# Altium integrated library ftg_lib.IntLib: 73 symbols (part 2 of 2)
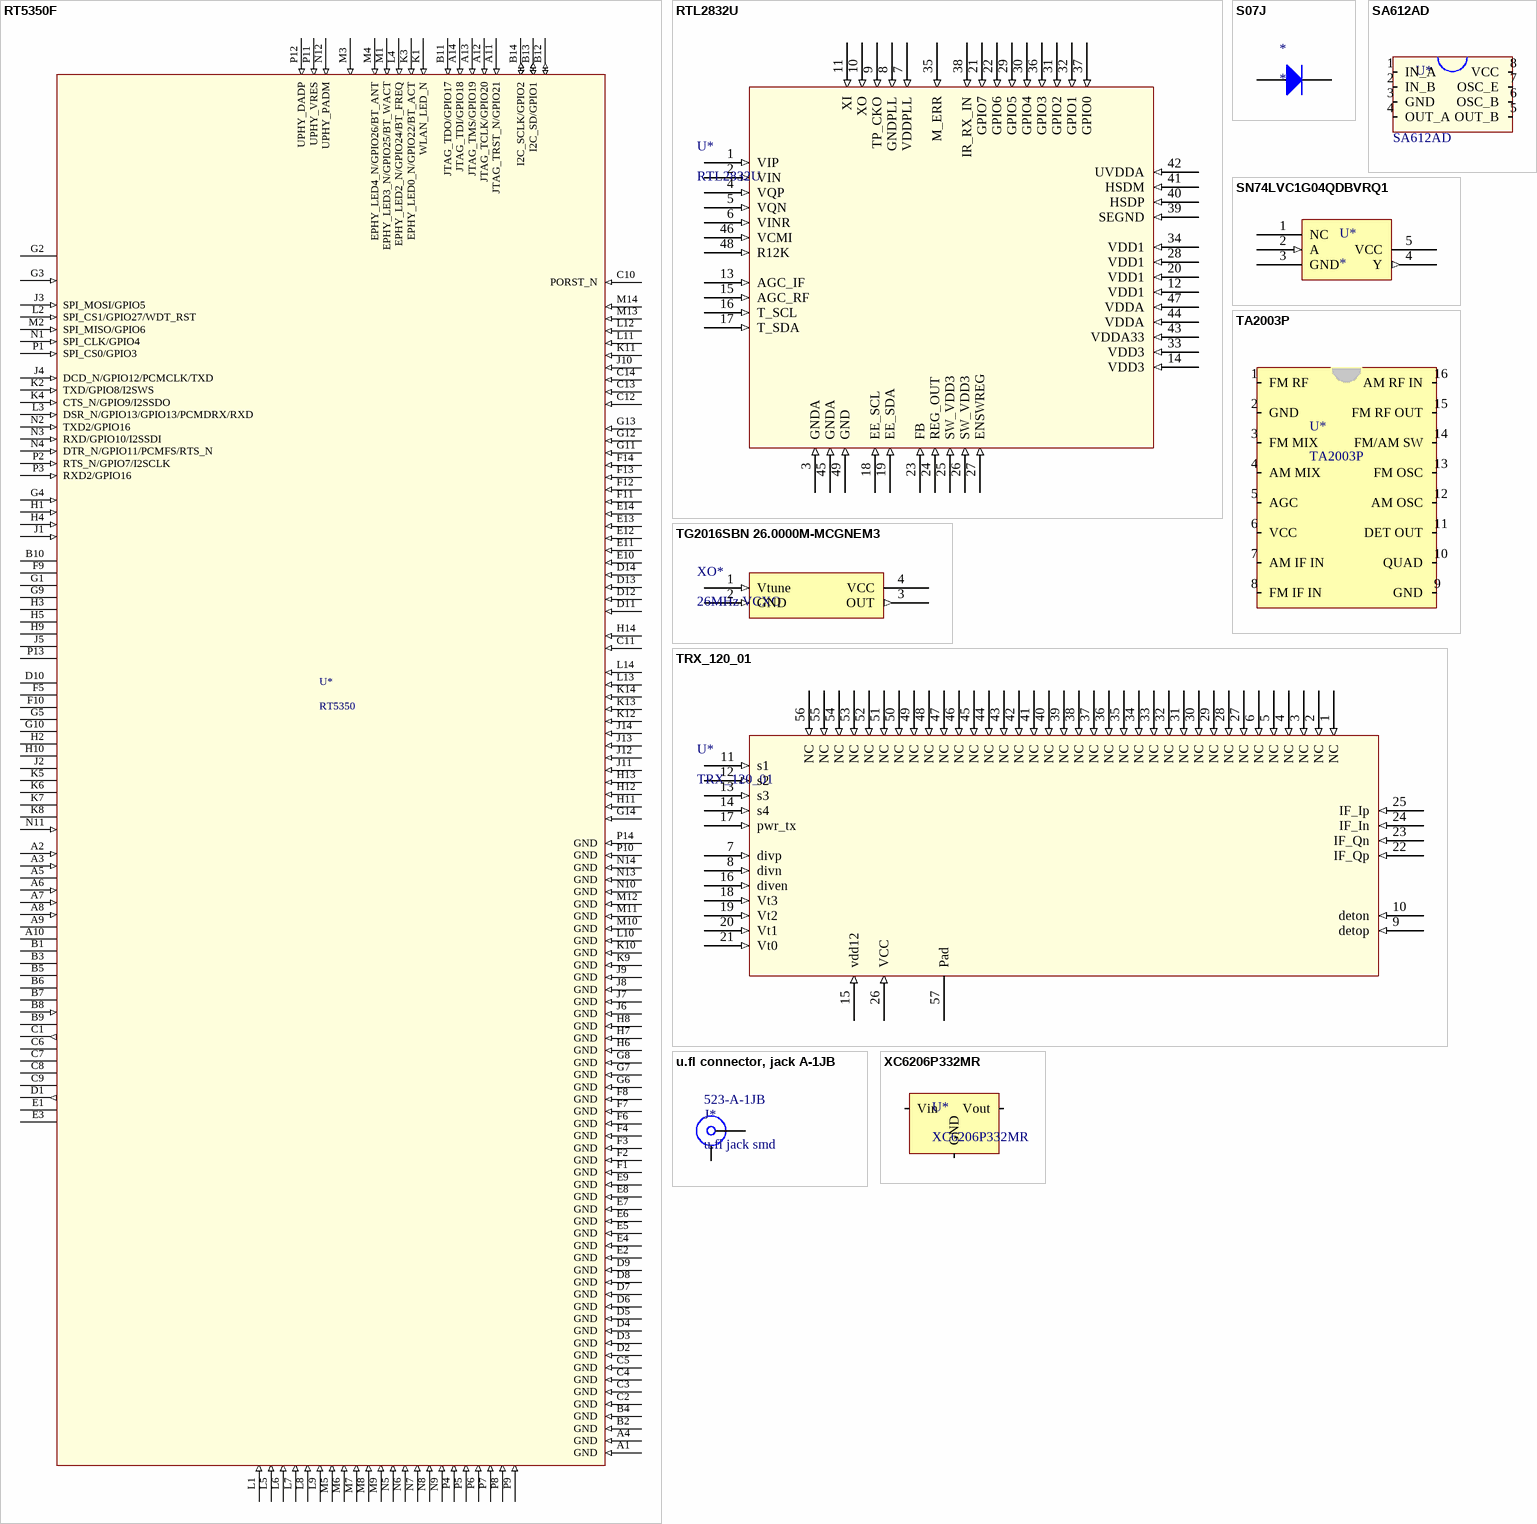
[diagram p3: symbols RT5350F to XC6206P332MR]

## SA612AD
designator U*
Manufacturer 1: NXP Semiconductors; Manufacturer Part Number 1: SA612AD/01,118; Input Frequency: 500MHz; Power Gain: 17dB; Supplier 1: Mouser; Stock 1: 1993; Pricing 1: 1=2.34, 10=1.92, 50=1.92, 100=1.54, 1000=1.11, 10000=0.998 (USD); Operating Temperature (Min): -40C; Operating Temperature (Max): 85C; Package Type: SO; Packaging: Tape and Reel; Operating Temperature Classification: Industrial; ComponentLink1URL: https://datasheet.ciiva.com/27052/1460068-27052253.pdf; ComponentLink1Description: https://datasheet.ciiva.com/27052/1460068-27052253.pdf; ComponentLink2URL: https://datasheet.ciiva.com/15100/getdatasheetpartid-117259-15100947.pdf; ComponentLink2Description: https://datasheet.ciiva.com/15100/getdatasheetpartid-117259-15100947.pdf; ComponentLink3URL: https://datasheet.ciiva.com/3271/sa612a-3271368.pdf; ComponentLink3Description: https://datasheet.ciiva.com/3271/sa612a-3271368.pdf; Supplier Part Number 1: SA612AD
footprint SO8_SOIC8
pins: 1 IN_A, 2 IN_B, 3 GND, 4 OUT_A, 5 OUT_B, 6 OSC_B, 7 OSC_E, 8 VCC

## SN74LVC1G04QDBVRQ1
designator U*
Single gate inverter; Publisher: ftg; Case: SOT23-5
footprint SOT23-5_TI (SOT23, 5-Leads, Body 2,90x2,80mm, Pitch 0,95mm, IPC Low Density)
pins: 1 NC, 2 A (in), 3 GND, 4 Y (out), 5 VCC (power)

## TA2003P
designator U*
AM/FM receiver IC; Manufacturer 1: Toshiba; Supplier 1: Arrow; Manufacturer Part Number 1: TA2003P; Stock 1: 0; Category: Semiconductors › Other analog ICs › Other analog ICs; Supplier Part Number 1: TA2003P; ComponentLink1Description: UTC TA2003 datasheet; ComponentLink1URL: http://www.unisonic.com.tw/datasheet/TA2003.pdf
footprint DIP16_tosh
pins: 1 FM RF, 2 GND, 3 FM MIX, 4 AM MIX, 5 AGC, 6 VCC (power), 7 AM IF IN, 8 FM IF IN, 9 GND, 10 QUAD, 11 DET OUT, 12 AM OSC, 13 FM OSC, 14 FM/AM SW, 15 FM RF OUT, 16 AM RF IN

## TG2016SBN 26.0000M-MCGNEM3
designator XO*, comment 26MHz VCXO
26MHz VCXO 1.5ppm 3.3V; Manufacturer 1: Epson; Manufacturer Part Number 1: TG2016SBN 26.0000M-MCGNEM3; Max Supply Current: 10mA; Load Capacitance: 10pF; Supplier 1: Mouser; Stock 1: 144; Case/Package: SMD/SMT; Min Operating Temperature: -40°C; Max Operating Temperature: 85°C; Frequency: 26MHz; Packaging: Tape and Reel; Package Quantity: 1; Frequency Stability: 1.5ppm; Termination: SMD/SMT; Length: 2mm; Height: 0.73; Width: 1.6mm; Lead Free: Lead Free; ComponentLink1URL: http://www.mouser.com/ds/2/137/epson_10202016_TG2016SBN-1021127.pdf; ComponentLink1Description: http://www.mouser.com/ds/2/137/epson_10202016_TG2016SBN-1021127.pdf; Supplier Part Number 1: 732-20S26.0MCGNEM3
footprint TG2016SBN (TG2016SBN TCXO/VCXO case)
pins: 1 Vtune (in), 2 GND (in), 3 OUT (out), 4 VCC (power)

## TRX_120_01
designator U*
122GHz Radar Front End; Manufacturer: Silicon Radar GmbH; Publisher: ftg; ComponentLink1URL: http://www.siliconradar.com/datasheets/160721_Datenblatt_TRX_120G.pdf; ComponentLink1Description: TRX_120_01 Datasheet; Package / Case: QFN-56; Published: 26.4.2017
footprint QFN50P800X800X84_HS-57N (QFN, 56-Leads, Body 8,00x8,00mm, Pitch 0,50mm, Thermal Pad 6,20x6,20mm, IPC Medium Density)
pins: 1 NC (in), 2 NC (in), 3 NC (in), 4 NC (in), 5 NC (in), 6 NC (in), 7 divp (in) "Divider out+", 8 divn (in) "Divider out-", 9 detop (in) "MUX out+", 10 deton (in) "MUX out-", 11 s1 (in) "MUX Ctrl", 12 s2 (in) "MUX Ctrl", 13 s3 (in) "MUX Ctrl", 14 s4 (in) "MUX Ctrl", 15 vdd12 (in) "Pwr det supply 1.2V 2mA", 16 diven (in) "Divider Enable", 17 pwr_tx (in) "TX Enable", 18 Vt3 (in) "VCO tune3", 19 Vt2 (in) "VCO tune2", 20 Vt1 (in) "VCO tune1", 21 Vt0 (in) "VCO tune0", 22 IF_Qp (in) "IF_Q+", 23 IF_Qn (in) "IF_Q-", 24 IF_In (in) "IF_I-", 25 IF_Ip (in) "IF_I+", 26 VCC (in) "3.3V Supply", 27 NC (in), 28 NC (in), 29 NC (in), 30 NC (in), 31 NC (in), 32 NC (in), 33 NC (in), 34 NC (in), 35 NC (in), 36 NC (in), 37 NC (in), 38 NC (in), 39 NC (in), 40 NC (in), 41 NC (in), 42 NC (in), 43 NC (in), 44 NC (in), 45 NC (in), 46 NC (in), 47 NC (in), 48 NC (in), 49 NC (in), 50 NC (in), 51 NC (in), 52 NC (in), 53 NC (in), 54 NC (in), 55 NC (in), 56 NC (in), 57 Pad

## u.fl connector, jack A-1JB
designator J*, comment u.fl jack smd  Supplier Part Number 1: 523-A-1JB
Manufacturer 1: Amphenol / Amphenol RF; Manufacturer Part Number 1: A-1JB; Connector Type: AMC Coaxial; Body Style: Straight Jack; Coaxial Termination: Solder; Impedance: 50ohm; Frequency Max: 6GHz; Supplier 1: Mouser; Stock 1: 19506; Pricing 1: 1=0.65, 10=0.596, 50=0.535, 100=0.51, 1000=0.365, 10000=0.351 (USD); Contact Material: Brass; Contact Plating: Gold; ComponentLink1URL: https://datasheet.ciiva.com/22652/689597-22652949.pdf; ComponentLink1Description: https://datasheet.ciiva.com/22652/689597-22652949.pdf; ComponentLink2URL: https://datasheet.ciiva.com/15172/getdatasheetpartid-168895-15172647.pdf; ComponentLink2Description: https://datasheet.ciiva.com/15172/getdatasheetpartid-168895-15172647.pdf; ComponentLink3URL: https://datasheet.ciiva.com/36526/2036357-36526267.pdf; ComponentLink3Description: https://datasheet.ciiva.com/36526/2036357-36526267.pdf; ComponentLink4URL: https://datasheet.ciiva.com/5175/ca-1jb-38743-5175829.pdf; ComponentLink4Description: https://datasheet.ciiva.com/5175/ca-1jb-38743-5175829.pdf; ComponentLink5URL: https://datasheet.ciiva.com/3132/ca-1jb-3132240.pdf; ComponentLink5Description: https://datasheet.ciiva.com/3132/ca-1jb-3132240.pdf; ComponentLink6URL: https://datasheet.ciiva.com/14157/04614608-14157589.pdf; ComponentLink6Description: https://datasheet.ciiva.com/14157/04614608-14157589.pdf; ComponentLink7URL: https://datasheet.ciiva.com/643/ca-1jb-643532.pdf; ComponentLink7Description: https://datasheet.ciiva.com/643/ca-1jb-643532.pdf; ComponentLink8URL: https://datasheet.ciiva.com/14565/70142555-14565783.pdf; ComponentLink8Description: https://datasheet.ciiva.com/14565/70142555-14565783.pdf; ComponentLink9URL: https://datasheet.ciiva.com/643/ca-1jb-643531.pdf; ComponentLink9Description: https://datasheet.ciiva.com/643/ca-1jb-643531.pdf
footprint U.FL jack (U.FL smd jack AMPhenol RF AMC series)
pins: 1, 2

## XC6206P332MR
designator U*
3.3V/0.2A Positive Fixed LDO Voltage Regulator SOT-23; Manufacturer: Torex; Output voltage: 3.3V; Maximum input voltage: 6.0V; Output current: 200mA; Dropout: 250mV; Publisher: ftg; Datasheet: https://www.torexsemi.com/file/xc6206/XC6206.pdf; Case: SOT-23-3
footprint SOT23-3 generic (SOT23, 3-Leads, Body 2,90x2,45mm, Pitch 0,95mm, IPC Medium Density)
pins: 1 GND, 2 Vout, 3 Vin